# Altium footprint library UA78M33CKVURG3.PcbLib: 1 footprints
Each footprint in its own frame and in the unit in brackets; x right, y up, seen from the top. Pads: shape width x height; smd on the part's side, far side on the other; paste and mask are expansions set on the pad; w line width, h text height; cw(c..) or ccw(c..) is an arc to the next point about the centre after c.
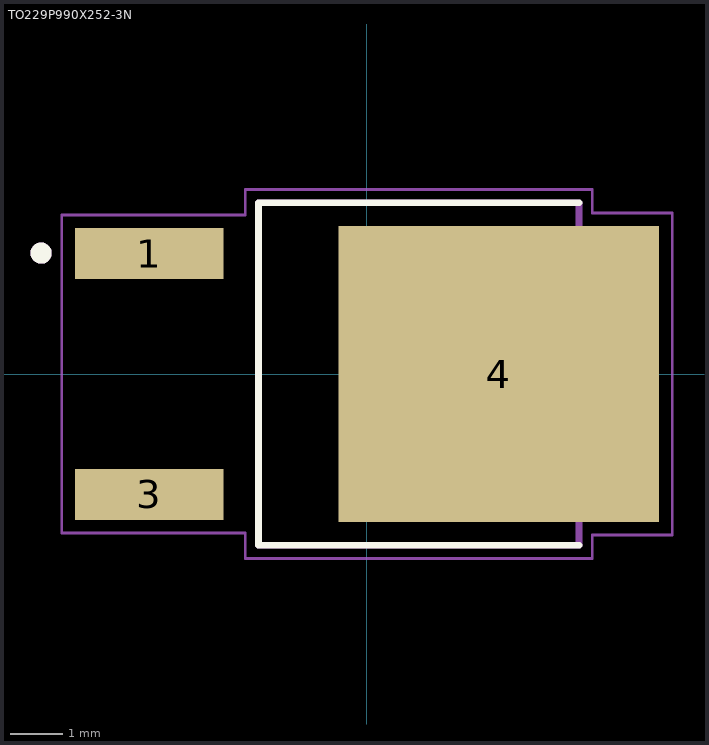
[diagram p0: the footprint, top view; thin cyan lines are the x and y axes]

## TO229P990X252-3N [mm]
pads (3):
  rect 2.83x0.97 smd: 1(-4.14,2.29) 3(-4.14,-2.29)
  rect 6.1x5.63 smd paste-4: 4(2.51,0)
Top Overlay:
  circle w0.2: c-6.2,2.3 r0.1
  lines w0.127: 4.037,-3.26 -2.063,-3.26 -2.063,3.26 4.037,3.26
Mechanical 13:
  circle w0.2: c-6.2,2.3 r0.1
  lines w0.127: -2.063,-3.26 4.037,-3.26 4.037,3.26 -2.063,3.26 -2.063,-3.26
Mechanical 15:
  lines w0.05: -5.805,-3.025 -2.313,-3.025 -2.313,-3.51 4.287,-3.51 4.287,-3.065 5.81,-3.065 5.81,3.065 4.287,3.065 4.287,3.51 -2.313,3.51 -2.313,3.025 -5.805,3.025 -5.805,-3.025
3D body "step_temp.STEP": height 2.52, standoff -0.13, extent -4.952,-3.263 4.952,3.263